# Altium footprint library MyLib.PcbLib: 38 footprints (part 1 of 3)
Each footprint in its own frame and in the unit in brackets; x right, y up, seen from the top. Pads: shape width x height; smd on the part's side, far side on the other; paste and mask are expansions set on the pad; w line width, h text height; cw(c..) or ccw(c..) is an arc to the next point about the centre after c.
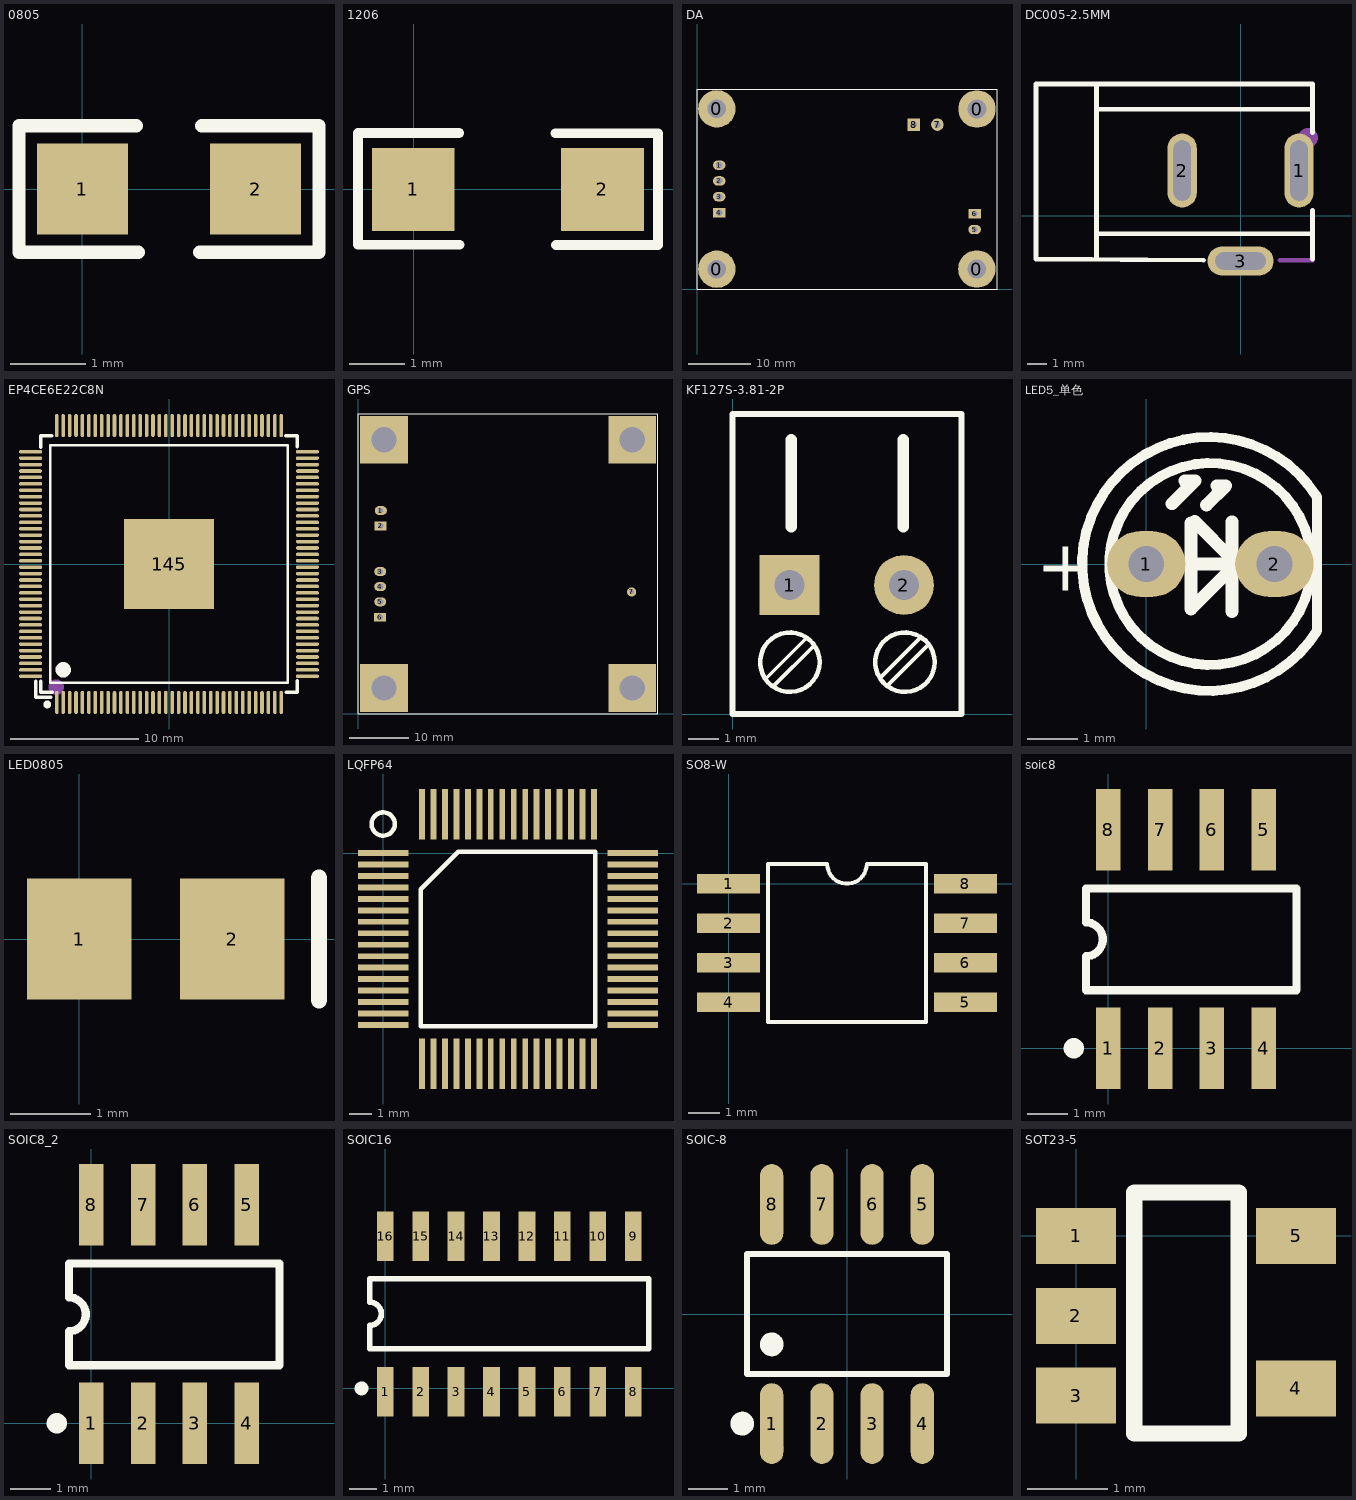
[diagram p0: the footprints below, top view; thin cyan lines are the x and y axes]

## 0805 [mm]
height 1.75
pads (2):
  rect 1.2x1.2 smd: 1(0,0) 2(2.286,0)
Top Overlay:
  lines w0.178: 0.711,0.838 -0.838,0.838 -0.838,-0.838 0.737,-0.838 ; 1.549,-0.838 3.124,-0.838 3.124,0.838 1.575,0.838

## 1206 [mm]
height 1.75
pads (2):
  rect 1.5x1.5 smd: 1(-0.005,0) 2(3.424,0)
Top Overlay:
  lines w0.178: 0.828,1.024 -1.006,1.024 -1.006,-1.003 0.831,-1.003 ; 2.573,1.019 4.43,1.019 4.43,-1.008 2.583,-1.008

## DA [mm]
pads (12):
  round 6 hole 3: 0(3.175,3.175) 0(3.175,28.829) 0(44.78,3.2) 0(44.806,28.804)
  oval 2x1.5 hole 1: 1(3.556,19.812)
  oval 2x1.5 hole 1.016: 2(3.556,17.297) 3(3.556,14.772)
  rect 2x1.5 hole 1.016: 4(3.556,12.192)
  oval 2x1.5 hole 0.9: 5(44.425,9.515)
  rect 2x1.5 hole 0.9: 6(44.45,12.065)
  round 2 hole 1: 7(38.476,26.296)
  rect 2x2 hole 1: 8(34.666,26.296)
Top Overlay:
  lines w0.127: 0,0 0,32.004 48.006,32.004 48.006,0 0,0

## DC005-2.5MM [mm]
pads (3):
  oval 1.5x3.8 hole 0.9 slot 3.1 at 90 deg paste+0 mask+0.051: 1(3.001,2.325) 2(-3,2.325)
  oval 3.4x1.5 hole 0.9 slot 2.6 at 0 deg paste+0 mask+0.051: 3(0,-2.324)
Top Overlay:
  lines w0.254: -10.512,-2.233 -10.512,6.767 ; -10.51,-2.231 -1.905,-2.286 ; -10.511,6.773 3.707,6.772 ; -7.4,-2.224 -7.4,6.776 ; -7.32,-0.924 3.695,-0.924 ; -7.32,5.476 3.703,5.474 ; 3.7,-2.224 3.7,0.282 ; 3.7,4.269 3.7,6.776
Mechanical 15:
  circle w0.5: c3.469,4.01 r0.25
  lines w0.254: 2.032,-2.286 3.683,-2.286

## EP4CE6E22C8N [mm]
pads (145):
  oval 0.28x1.8 smd paste+0 mask+0.051: 1(-8.75,-10.795) 2(-8.25,-10.795) 3(-7.75,-10.795) 4(-7.25,-10.795) 5(-6.75,-10.795) 6(-6.25,-10.795) 7(-5.75,-10.795) 8(-5.25,-10.795) 9(-4.75,-10.795) 10(-4.25,-10.795) 11(-3.75,-10.795) 12(-3.25,-10.795) 13(-2.75,-10.795) 14(-2.25,-10.795) 15(-1.75,-10.795) 16(-1.25,-10.795) 17(-0.75,-10.795) 18(-0.25,-10.795) 19(0.25,-10.795) 20(0.75,-10.795) 21(1.25,-10.795) 22(1.75,-10.795) 23(2.25,-10.795) 24(2.75,-10.795) 25(3.25,-10.795) 26(3.75,-10.795) 27(4.25,-10.795) 28(4.75,-10.795) 29(5.25,-10.795) 30(5.75,-10.795) 31(6.25,-10.795) 32(6.75,-10.795) 33(7.25,-10.795) 34(7.75,-10.795) 35(8.25,-10.795) 36(8.75,-10.795) 73(8.75,10.795) 74(8.25,10.795) 75(7.75,10.795) 76(7.25,10.795) 77(6.75,10.795) 78(6.25,10.795) 79(5.75,10.795) 80(5.25,10.795) 81(4.75,10.795) 82(4.25,10.795) 83(3.75,10.795) 84(3.25,10.795) 85(2.75,10.795) 86(2.25,10.795) 87(1.75,10.795) 88(1.25,10.795) 89(0.75,10.795) 90(0.25,10.795) 91(-0.25,10.795) 92(-0.75,10.795) 93(-1.25,10.795) 94(-1.75,10.795) 95(-2.25,10.795) 96(-2.75,10.795) 97(-3.25,10.795) 98(-3.75,10.795) 99(-4.25,10.795) 100(-4.75,10.795) 101(-5.25,10.795) 102(-5.75,10.795) 103(-6.25,10.795) 104(-6.75,10.795) 105(-7.25,10.795) 106(-7.75,10.795) 107(-8.25,10.795) 108(-8.75,10.795)
  oval 1.8x0.28 smd paste+0 mask+0.051: 37(10.795,-8.75) 38(10.795,-8.25) 39(10.795,-7.75) 40(10.795,-7.25) 41(10.795,-6.75) 42(10.795,-6.25) 43(10.795,-5.75) 44(10.795,-5.25) 45(10.795,-4.75) 46(10.795,-4.25) 47(10.795,-3.75) 48(10.795,-3.25) 49(10.795,-2.75) 50(10.795,-2.25) 51(10.795,-1.75) 52(10.795,-1.25) 53(10.795,-0.75) 54(10.795,-0.25) 55(10.795,0.25) 56(10.795,0.75) 57(10.795,1.25) 58(10.795,1.75) 59(10.795,2.25) 60(10.795,2.75) 61(10.795,3.25) 62(10.795,3.75) 63(10.795,4.25) 64(10.795,4.75) 65(10.795,5.25) 66(10.795,5.75) 67(10.795,6.25) 68(10.795,6.75) 69(10.795,7.25) 70(10.795,7.75) 71(10.795,8.25) 72(10.795,8.75) 109(-10.795,8.75) 110(-10.795,8.25) 111(-10.795,7.75) 112(-10.795,7.25) 113(-10.795,6.75) 114(-10.795,6.25) 115(-10.795,5.75) 116(-10.795,5.25) 117(-10.795,4.75) 118(-10.795,4.25) 119(-10.795,3.75) 120(-10.795,3.25) 121(-10.795,2.75) 122(-10.795,2.25) 123(-10.795,1.75) 124(-10.795,1.25) 125(-10.795,0.75) 126(-10.795,0.25) 127(-10.795,-0.25) 128(-10.795,-0.75) 129(-10.795,-1.25) 130(-10.795,-1.75) 131(-10.795,-2.25) 132(-10.795,-2.75) 133(-10.795,-3.25) 134(-10.795,-3.75) 135(-10.795,-4.25) 136(-10.795,-4.75) 137(-10.795,-5.25) 138(-10.795,-5.75) 139(-10.795,-6.25) 140(-10.795,-6.75) 141(-10.795,-7.25) 142(-10.795,-7.75) 143(-10.795,-8.25) 144(-10.795,-8.75)
  rect 7x7 smd paste+0 mask+0.051: 145(0,0)
Top Overlay:
  lines w0.2: -9.25,-9.25 9.25,-9.25 9.25,9.25 -9.25,9.25 -9.25,-9.25
  lines w0.254: -10.399,-9.134 -10.399,-10.399 -9.2,-10.399 ; -10,-9.132 -10,-10 -9.107,-10 ; -10,9.107 -10,10 -9.132,10 ; 9.107,10 10,10 10,9.132 ; 9.132,-10 10,-10 10,-9.107
  lines w0.3: -9.5,-10.8 ccw(c-9.499,-10.95) -9.497,-10.8
  lines w0.6: -8.25,-7.95 ccw(c-8.247,-8.25) -8.245,-7.95
Mechanical 15:
  circle w0.6: c-8.8,-9.6 r0.3

## GPS [mm]
pads (11):
  oval 2x1.5 hole 0.9: 1(3.809,33.919)
  rect 2x1.5 hole 0.9: 2(3.784,31.369)
  oval 2x1.5 hole 1: 3(3.708,23.749)
  oval 2x1.5 hole 1.016: 4(3.708,21.234) 5(3.708,18.709)
  rect 2x1.5 hole 1: 6(3.708,16.129)
  round 1.524 hole 0.762: 7(45.618,20.345)
  rect 8x8 hole 4.2: ""(4.318,4.318) ""(4.318,45.72) ""(45.72,4.318) ""(45.72,45.72)
Top Overlay:
  lines w0.127: 0,0 50.013,0 50.013,50.013 0,50.013 0,0

## KF127S-3.81-2P [mm]
height 1.75
pads (2):
  rect 2x2 hole 1: 1(1.9,4.3)
  round 2 hole 1: 2(5.71,4.3)
Top Overlay:
  circle w0.152: c1.905,1.727 r0.991
  circle w0.152: c5.74,1.727 r0.991
  lines w0.127: 1.118,1.194 2.451,2.527 ; 1.397,0.965 2.667,2.235 ; 4.928,1.219 6.261,2.553 ; 5.182,0.965 6.515,2.299
  lines w0.203: 0,0 0,10 7.62,10 7.62,0 0,0
  lines w0.381: 1.956,6.248 1.956,9.144 ; 5.69,6.248 5.69,9.144

## LED5_单色 [mm]
pads (2):
  oval 1.554x1.3 hole 0.711: 1(0,0) 2(2.54,0)
Top Overlay:
  circle w0.2: c1.27,0 r2
  lines w0.2: 3.367,1.35 ccw(c1.245,0) 3.386,-1.32 3.386,1.331 3.367,1.35
  lines w0.254: 0.508,1.194 0.965,1.651 0.762,1.651 0.772,1.641 ; 0.635,0 1.854,0 ; 1.194,1.168 1.575,1.549 1.397,1.549 ; 1.702,-0.94 1.702,0.838 ; 1.702,0.102 0.961,0.843 0.889,0.813 0.889,-0.889 1.778,0
  text "+" at -2.184,-0.533 h1.02

## LED0805 [mm] "Chip Capacitor; Body 2.0 x 1.2 mm (LxW typ)"
height 1.1
pads (2):
  rect 1.3x1.5 smd: 1(0,0) 2(1.9,0)
Top Overlay:
  lines w0.2: 2.982,-0.762 2.982,0.762

## LQFP64 [mm]
pads (64):
  rect 2.2x0.254 smd: 1(0,0) 2(0,-0.5) 3(0,-1) 4(0,-1.5) 5(0,-2) 6(0,-2.5) 7(0,-3) 8(0,-3.5) 9(0,-4) 10(0,-4.5) 11(0,-5) 12(0,-5.5) 13(0,-6) 14(0,-6.5) 15(0,-7) 16(0,-7.5) 33(10.9,-7.5) 34(10.9,-7) 35(10.9,-6.5) 36(10.9,-6) 37(10.9,-5.5) 38(10.9,-5) 39(10.9,-4.5) 40(10.9,-4) 41(10.9,-3.5) 42(10.9,-3) 43(10.9,-2.5) 44(10.9,-2) 45(10.9,-1.5) 46(10.9,-1) 47(10.9,-0.5) 48(10.9,0)
  rect 0.254x2.2 smd: 17(1.7,-9.2) 18(2.2,-9.2) 19(2.7,-9.2) 20(3.2,-9.2) 21(3.7,-9.2) 22(4.2,-9.2) 23(4.7,-9.2) 24(5.2,-9.2) 25(5.7,-9.2) 26(6.2,-9.2) 27(6.7,-9.2) 28(7.2,-9.2) 29(7.7,-9.2) 30(8.2,-9.2) 31(8.7,-9.2) 32(9.2,-9.2) 49(9.2,1.7) 50(8.7,1.7) 51(8.2,1.7) 52(7.7,1.7) 53(7.2,1.7) 54(6.7,1.7) 55(6.2,1.7) 56(5.7,1.7) 57(5.2,1.7) 58(4.7,1.7) 59(4.2,1.7) 60(3.7,1.7) 61(3.2,1.7) 62(2.7,1.7) 63(2.2,1.7) 64(1.7,1.7)
Top Overlay:
  circle w0.2: c0,1.27 r0.508
  lines w0.2: 1.635,-7.565 9.265,-7.565 9.265,0.065 3.27,0.065 1.635,-1.57 1.635,-7.565

## SO8-W [mil]
height 50
pads (8):
  rect 80x25 smd: 1(-0.4,0) 2(-0.4,-50) 3(-0.4,-100) 4(-0.4,-150) 5(299.6,-150) 6(299.6,-100) 7(299.6,-50) 8(299.6,0)
Top Overlay:
  lines w5: 49.6,-175 249.6,-175 249.6,25 174.6,25 cw(c149.6,25) 124.6,25 49.6,25 49.6,-175

## soic8 [mm]
height 1.75
pads (8):
  rect 0.6x2 smd: 1(0,0) 2(1.27,0) 3(2.54,0) 4(3.81,0) 5(3.81,5.367) 6(2.54,5.367) 7(1.27,5.367) 8(0,5.367)
Top Overlay:
  circle w0.25: c-0.85,0 r0.125
  lines w0.2: -0.555,1.425 -0.555,2.258 ccw(c-0.555,2.675) -0.555,3.092 -0.555,3.925 4.623,3.925 4.623,1.425 -0.555,1.425

## SOIC8_2 [mm]
pads (8):
  rect 0.6x2 smd: 1(0,0) 2(1.27,0) 3(2.54,0) 4(3.81,0) 5(3.81,5.367) 6(2.54,5.367) 7(1.27,5.367) 8(0,5.367)
Top Overlay:
  circle w0.25: c-0.85,0 r0.125
  lines w0.2: -0.555,1.425 -0.555,2.258 ccw(c-0.555,2.675) -0.555,3.092 -0.555,3.925 4.623,3.925 4.623,1.425 -0.555,1.425

## SOIC16 [mil] "Small Outline; 16 Leads; Body Width 3.9 mm; Pitch 1.27 mm"
height 68.9
pads (16):
  rect 23.62x70 smd: 1(0,-5) 2(50,-5) 3(100,-5) 4(150,-5) 5(200,-5) 6(250,-5) 7(300,-5) 8(350,-5) 9(350,215) 10(300,215) 11(250,215) 12(200,215) 13(150,215) 14(100,215) 15(50,215) 16(0,215)
Top Overlay:
  circle w9.84: c-33.46,0 r4.92
  lines w7.87: -21.85,56.1 371.85,56.1 371.85,154.53 -21.85,154.53 -21.85,121.72 cw(c-21.85,105.31) -21.85,88.91 -21.85,56.1

## SOIC-8 [mm]
pads (8):
  oval 0.588x2.045 smd paste+0 mask+0.051: 1(-1.905,-2.773) 2(-0.635,-2.773) 3(0.635,-2.773) 4(1.905,-2.773) 5(1.905,2.773) 6(0.635,2.773) 7(-0.635,2.773) 8(-1.905,2.773)
Top Overlay:
  circle w0.3: c-1.905,-0.769 r0.15
  circle w0.3: c-2.652,-2.772 r0.15
  lines w0.152: -2.526,-1.521 -2.526,1.521 2.526,1.521 2.526,-1.521 -2.526,-1.521
Mechanical 15:
  circle w0.3: c-1.905,-3.4 r0.15

## SOT23-5 [mm]
height 1.75
pads (5):
  rect 1x0.7 smd: 1(0,0) 2(-0.002,-1) 3(-0.001,-2) 4(2.753,-1.91) 5(2.754,0)
Top Overlay:
  lines w0.203: 0.728,-2.475 0.728,0.545 2.036,0.545 2.036,-2.473 2.034,-2.475 0.728,-2.475